# Altium footprint library HC49S830507030ATF.PcbLib: 1 footprints
Each footprint in its own frame and in the unit in brackets; x right, y up, seen from the top. Pads: shape width x height; smd on the part's side, far side on the other; paste and mask are expansions set on the pad; w line width, h text height; cw(c..) or ccw(c..) is an arc to the next point about the centre after c.
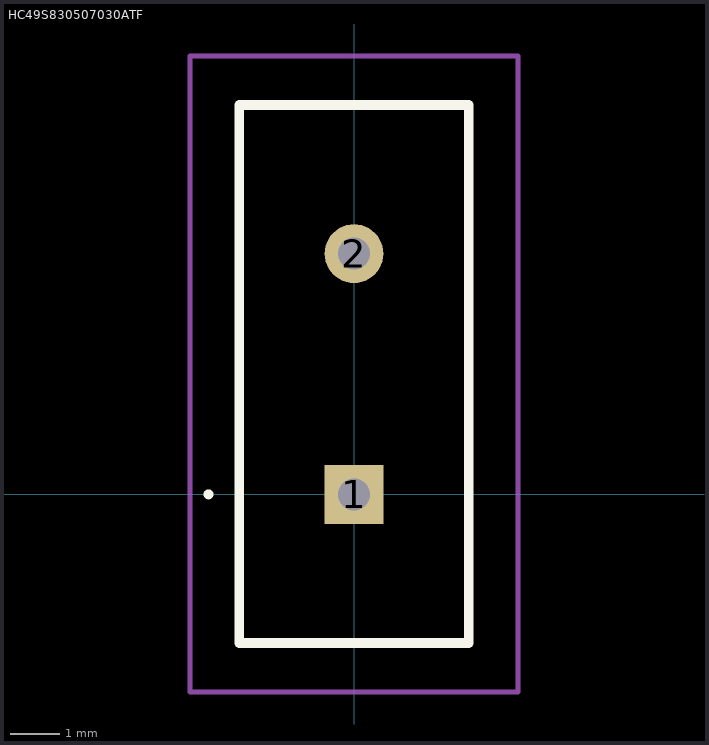
[diagram p0: the footprint, top view; thin cyan lines are the x and y axes]

## HC49S830507030ATF [mm]
pads (2):
  rect 1.192x1.192 hole 0.65: 1(0,0)
  round 1.192 hole 0.65: 2(0,4.88)
Top Overlay:
  lines w0.1: -3,0 -3,0 ; -3,0 ccw(c-2.95,0) -2.9,0 ; -3,0 cw(c-2.95,0) -2.9,0 ; -2.9,0 -2.9,0
  lines w0.2: -2.325,-3.01 2.325,-3.01 2.325,7.89 -2.325,7.89 -2.325,-3.01
Mechanical 15:
  lines w0.1: -2.325,-3.01 2.325,-3.01 2.325,7.89 -2.325,7.89 -2.325,-3.01
Mechanical 20:
  lines w0.1: -3.325,-4.01 3.325,-4.01 3.325,8.89 -3.325,8.89 -3.325,-4.01